# Altium integrated library Res-SMD_V2.IntLib: 2369 symbols (part 12 of 18)
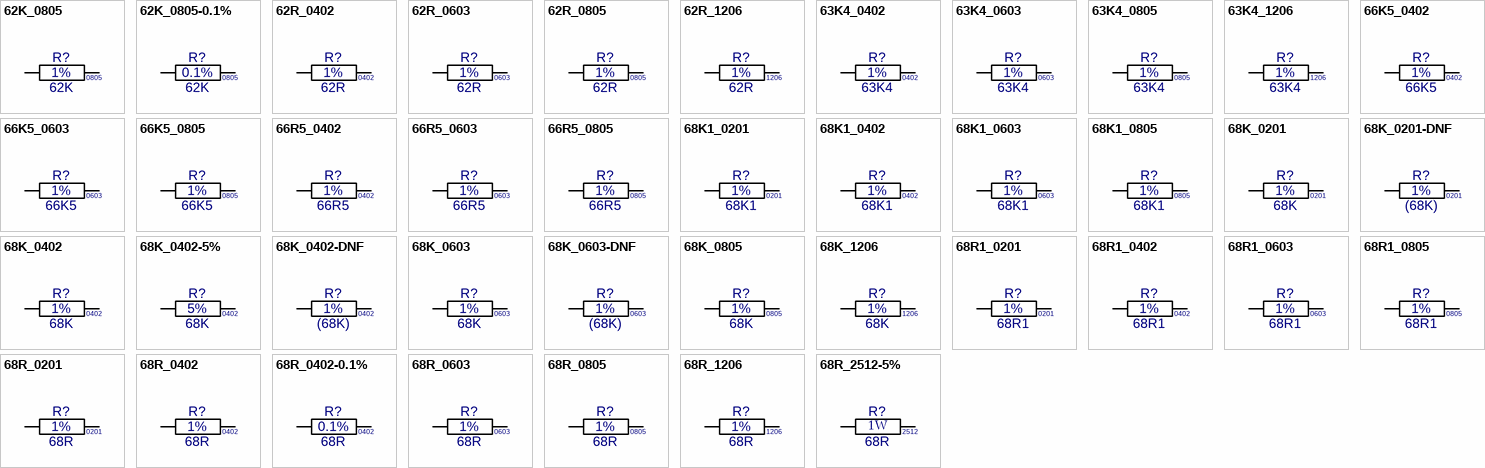
[diagram p70: symbols 62K_0805 to 68R_2512-5%]

## 68R_0805
designator R?, comment value 68R  Tol: 1%  Text1: 0805  (hidden comment: 68R_R0805_1%)
Resistor Chip SMD; Manufacturer: Various; Part Number: 68R 0805 1%; Watt: 125mW; Package: RESC0805X65N; EDM-PN: *; Text2: *; Reutech PN: *; SAAB PN: *; DCE Part No: *
footprint RESC0805X65N (Chip Resistor, 0805, 2-Leads, Body 2.0x1.3mm, IPC Medium Density)
pins: 1, 2

## 68R_1206
designator R?, comment value 68R  Tol: 1%  Text1: 1206  (hidden comment: 68R_R1206_1%)
Resistor Chip SMD; Manufacturer: Various; Part Number: 68R 1206 1%; Watt: 250mW; Package: RESC1206X71N; EDM-PN: *; Text2: *; Reutech PN: *; SAAB PN: *; DCE Part No: *
footprint RESC1206X71N (Chip Resistor, 1206, 2-Leads, Body 3.2x1.6mm, IPC Medium Density)
pins: 1, 2

## 68R_2512-5%
designator R?, comment value 68R  Watt: 1W  Text1: 2512  (hidden comment: 68R_R2512_5%)
Resistor Chip SMD; Manufacturer: Various; Part Number: 68R 2512 5%; Tol: 5%; Package: RESC2512X71N; EDM-PN: *; Text2: *; Reutech PN: *; SAAB PN: *; DCE Part No: *
footprint RESC2512X71N (Chip Resistor, 2512, 2-Leads, Body 6.3x3.2mm, IPC Medium Density)
pins: 1, 2

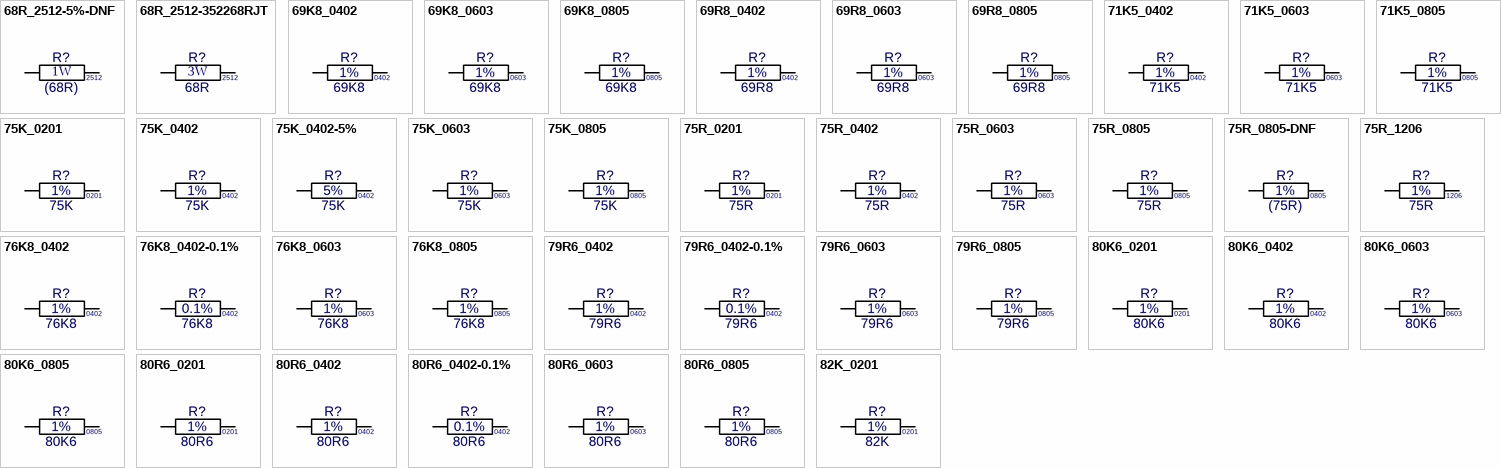
[diagram p37: symbols 68R_2512-5%-DNF to 82K_0201]

## 68R_2512-5%-DNF
designator R?, comment value (68R)  Watt: 1W  Text1: 2512  (hidden comment: 68R_R2512_5%-DNF)
Resistor Chip SMD - Do not Fit; Manufacturer: Various; Part Number: DNF - 68R 2512 5%; Tol: 5%; Package: RESC2512X71N; EDM-PN: *; Text2: *; Reutech PN: *; SAAB PN: *; DCE Part No: *
footprint RESC2512X71N (Chip Resistor, 2512, 2-Leads, Body 6.3x3.2mm, IPC Medium Density)
pins: 1, 2

## 68R_2512-352268RJT
designator R?, comment value 68R  Watt: 3W  Text1: 2512  (hidden comment: 352268RJT)
Resistor Chip Thick Film; Manufacturer: TE Connectivity; Tol: 5%; Part Number: 352268RJT; Package: RESC2512X71N; EDM-PN: *; Text2: *; Reutech PN: *; SAAB PN: *; DCE Part No: *
footprint RESC2512X71N (Chip Resistor, 2512, 2-Leads, Body 6.3x3.2mm, IPC Medium Density)
pins: 1, 2

## 69K8_0402
designator R?, comment value 69K8  Tol: 1%  Text1: 0402  (hidden comment: 69K8_R0402_1%)
Resistor Chip SMD; Manufacturer: Various; Part Number: 69K8 0402 1%; Watt: 63mW; Package: RESC0402X40N; EDM-PN: *; Text2: *; Reutech PN: *; SAAB PN: *; DCE Part No: *
footprint RESC0402X40N (Chip Resistor, 0402, 2-Leads, Body 1.1x0.5mm, IPC Medium Density)
pins: 1, 2

## 69K8_0603
designator R?, comment value 69K8  Tol: 1%  Text1: 0603  (hidden comment: 69K8_R0603_1%)
Resistor Chip SMD; Manufacturer: Various; Part Number: 69K8 0603 1%; Watt: 100mW; Package: RESC0603X60N; EDM-PN: *; Text2: *; Reutech PN: *; SAAB PN: *; DCE Part No: *
footprint RESC0603X60N (Chip Resistor, 0603, 2-Leads, Body 1.6x0.8mm, IPC Medium Density)
pins: 1, 2

## 69K8_0805
designator R?, comment value 69K8  Tol: 1%  Text1: 0805  (hidden comment: 69K8_R0805_1%)
Resistor Chip SMD; Manufacturer: Various; Part Number: 69K8 0805 1%; Watt: 125mW; Package: RESC0805X65N; EDM-PN: *; Text2: *; Reutech PN: *; SAAB PN: *; DCE Part No: *
footprint RESC0805X65N (Chip Resistor, 0805, 2-Leads, Body 2.0x1.3mm, IPC Medium Density)
pins: 1, 2

## 69R8_0402
designator R?, comment value 69R8  Tol: 1%  Text1: 0402  (hidden comment: 69R8_R0402_1%)
Resistor Chip SMD; Manufacturer: Various; Part Number: 69R8 0402 1%; Watt: 63mW; Package: RESC0402X40N; EDM-PN: *; Text2: *; Reutech PN: *; SAAB PN: *; DCE Part No: *
footprint RESC0402X40N (Chip Resistor, 0402, 2-Leads, Body 1.1x0.5mm, IPC Medium Density)
pins: 1, 2

## 69R8_0603
designator R?, comment value 69R8  Tol: 1%  Text1: 0603  (hidden comment: 69R8_R0603_1%)
Resistor Chip SMD; Manufacturer: Various; Part Number: 69R8 0603 1%; Watt: 100mW; Package: RESC0603X60N; EDM-PN: *; Text2: *; Reutech PN: *; SAAB PN: *; DCE Part No: *
footprint RESC0603X60N (Chip Resistor, 0603, 2-Leads, Body 1.6x0.8mm, IPC Medium Density)
pins: 1, 2

## 69R8_0805
designator R?, comment value 69R8  Tol: 1%  Text1: 0805  (hidden comment: 69R8_R0805_1%)
Resistor Chip SMD; Manufacturer: Various; Part Number: 69R8 0805 1%; Watt: 125mW; Package: RESC0805X65N; EDM-PN: *; Text2: *; Reutech PN: *; SAAB PN: *; DCE Part No: *
footprint RESC0805X65N (Chip Resistor, 0805, 2-Leads, Body 2.0x1.3mm, IPC Medium Density)
pins: 1, 2

## 71K5_0402
designator R?, comment value 71K5  Tol: 1%  Text1: 0402  (hidden comment: 71K5_R0402_1%)
Resistor Chip SMD; Manufacturer: Various; Part Number: 71K5 0402 1%; Watt: 63mW; EDM-PN: RES1566; Package: RESC0402X40N; Text2: *; Reutech PN: *; SAAB PN: *; DCE Part No: *
footprint RESC0402X40N (Chip Resistor, 0402, 2-Leads, Body 1.1x0.5mm, IPC Medium Density)
pins: 1, 2

## 71K5_0603
designator R?, comment value 71K5  Tol: 1%  Text1: 0603  (hidden comment: 71K5_R0603_1%)
Resistor Chip SMD; Manufacturer: Various; Part Number: 71K5 0603 1%; Watt: 100mW; Package: RESC0603X60N; EDM-PN: *; Text2: *; Reutech PN: *; SAAB PN: *; DCE Part No: *
footprint RESC0603X60N (Chip Resistor, 0603, 2-Leads, Body 1.6x0.8mm, IPC Medium Density)
pins: 1, 2

## 71K5_0805
designator R?, comment value 71K5  Tol: 1%  Text1: 0805  (hidden comment: 71K5_R0805_1%)
Resistor Chip SMD; Manufacturer: Various; Part Number: 71K5 0805 1%; Watt: 125mW; Package: RESC0805X65N; EDM-PN: *; Text2: *; Reutech PN: *; SAAB PN: *; DCE Part No: *
footprint RESC0805X65N (Chip Resistor, 0805, 2-Leads, Body 2.0x1.3mm, IPC Medium Density)
pins: 1, 2

## 75K_0201
designator R?, comment value 75K  Tol: 1%  Text1: 0201  (hidden comment: 75K_R0201_1%)
Resistor Chip SMD; Manufacturer: Various; Part Number: 75K 0201 1%; Watt: 31mW; Package: RESC0201X33N; EDM-PN: *; Text2: *; Reutech PN: *; SAAB PN: *; DCE Part No: *
footprint RESC0201X33N (Chip Resistor, 0201, 2-Leads, Body 0.6x0.3mm, IPC Medium Density)
pins: 1, 2

## 75K_0402
designator R?, comment value 75K  Tol: 1%  Text1: 0402  (hidden comment: 75K_R0402_1%)
Resistor Chip SMD; Manufacturer: Various; Part Number: 75K 0402 1%; Watt: 63mW; Package: RESC0402X40N; EDM-PN: *; Text2: *; Reutech PN: *; SAAB PN: *; DCE Part No: *
footprint RESC0402X40N (Chip Resistor, 0402, 2-Leads, Body 1.1x0.5mm, IPC Medium Density)
pins: 1, 2

## 75K_0402-5%
designator R?, comment value 75K  Tol: 5%  Text1: 0402  (hidden comment: 75K_R0402_5%)
Resistor Chip SMD; Manufacturer: Various; Part Number: 75K 0402 5%; Watt: 63mW; Package: RESC0402X40N; EDM-PN: *; Text2: *; Reutech PN: *; SAAB PN: *; DCE Part No: *
footprint RESC0402X40N (Chip Resistor, 0402, 2-Leads, Body 1.1x0.5mm, IPC Medium Density)
pins: 1, 2

## 75K_0603
designator R?, comment value 75K  Tol: 1%  Text1: 0603  (hidden comment: 75K_R0603_1%)
Resistor Chip SMD; Manufacturer: Various; Part Number: 75K 0603 1%; Watt: 100mW; EDM-PN: RES673; Package: RESC0603X60N; Text2: *; Reutech PN: 5905-93-7502; SAAB PN: *; DCE Part No: *
footprint RESC0603X60N (Chip Resistor, 0603, 2-Leads, Body 1.6x0.8mm, IPC Medium Density)
pins: 1, 2

## 75K_0805
designator R?, comment value 75K  Tol: 1%  Text1: 0805  (hidden comment: 75K_R0805_1%)
Resistor Chip SMD; Manufacturer: Various; Part Number: 75K 0805 1%; Watt: 125mW; Package: RESC0805X65N; EDM-PN: *; Text2: *; Reutech PN: *; SAAB PN: *; DCE Part No: *
footprint RESC0805X65N (Chip Resistor, 0805, 2-Leads, Body 2.0x1.3mm, IPC Medium Density)
pins: 1, 2

## 75R_0201
designator R?, comment value 75R  Tol: 1%  Text1: 0201  (hidden comment: 75R_R0201_1%)
Resistor Chip SMD; Manufacturer: Various; Part Number: 75R 0201 1%; Watt: 31mW; Package: RESC0201X33N; EDM-PN: *; Text2: *; Reutech PN: *; SAAB PN: *; DCE Part No: *
footprint RESC0201X33N (Chip Resistor, 0201, 2-Leads, Body 0.6x0.3mm, IPC Medium Density)
pins: 1, 2

## 75R_0402
designator R?, comment value 75R  Tol: 1%  Text1: 0402  (hidden comment: 75R_R0402_1%)
Resistor Chip SMD; Manufacturer: Various; Part Number: 75R 0402 1%; Watt: 63mW; Package: RESC0402X40N; EDM-PN: *; Text2: *; Reutech PN: *; SAAB PN: *; DCE Part No: *
footprint RESC0402X40N (Chip Resistor, 0402, 2-Leads, Body 1.1x0.5mm, IPC Medium Density)
pins: 1, 2

## 75R_0603
designator R?, comment value 75R  Tol: 1%  Text1: 0603  (hidden comment: 75R_R0603_1%)
Resistor Chip SMD; Manufacturer: Various; Part Number: 75R 0603 1%; Watt: 100mW; EDM-PN: RES673; Package: RESC0603X60N; Text2: *; SAAB PN: *; DCE Part No: *
footprint RESC0603X60N (Chip Resistor, 0603, 2-Leads, Body 1.6x0.8mm, IPC Medium Density)
pins: 1, 2

## 75R_0805
designator R?, comment value 75R  Tol: 1%  Text1: 0805  (hidden comment: 75R_R0805_1%)
Resistor Chip SMD; Manufacturer: Various; Part Number: 75R 0805 1%; Watt: 125mW; Package: RESC0805X65N; EDM-PN: *; Text2: *; Reutech PN: *; SAAB PN: *; DCE Part No: *
footprint RESC0805X65N (Chip Resistor, 0805, 2-Leads, Body 2.0x1.3mm, IPC Medium Density)
pins: 1, 2

## 75R_0805-DNF
designator R?, comment value (75R)  Tol: 1%  Text1: 0805  (hidden comment: 75R_R0805_1%-DNF)
Resistor Chip SMD - Do not Fit; Manufacturer: Various; Part Number: DNF - 75R 0805 1%; Watt: 125mW; Package: RESC0805X65N; EDM-PN: *; Text2: *; Reutech PN: *; SAAB PN: *; DCE Part No: *
footprint RESC0805X65N (Chip Resistor, 0805, 2-Leads, Body 2.0x1.3mm, IPC Medium Density)
pins: 1, 2

## 75R_1206
designator R?, comment value 75R  Tol: 1%  Text1: 1206  (hidden comment: 75R_R1206_1%)
Resistor Chip SMD; Manufacturer: Various; Part Number: 75R 1206 1%; Watt: 250mW; Package: RESC1206X71N; EDM-PN: *; Text2: *; Reutech PN: *; SAAB PN: *; DCE Part No: *
footprint RESC1206X71N (Chip Resistor, 1206, 2-Leads, Body 3.2x1.6mm, IPC Medium Density)
pins: 1, 2

## 76K8_0402
designator R?, comment value 76K8  Tol: 1%  Text1: 0402  (hidden comment: 76K8_R0402_1%)
Resistor Chip SMD; Manufacturer: Various; Part Number: 76K8 0402 1%; Watt: 63mW; Package: RESC0402X40N; EDM-PN: *; Text2: *; Reutech PN: *; SAAB PN: *; DCE Part No: *
footprint RESC0402X40N (Chip Resistor, 0402, 2-Leads, Body 1.1x0.5mm, IPC Medium Density)
pins: 1, 2

## 76K8_0402-0.1%
designator R?, comment value 76K8  Tol: 0.1%  Text1: 0402  (hidden comment: 76K8_R0402_0.1%)
Resistor Chip SMD; Manufacturer: Various; Part Number: 76K8 0402 0.1%; Watt: 63mW; Package: RESC0402X40N; EDM-PN: *; Text2: *; Reutech PN: *; SAAB PN: *; DCE Part No: *
footprint RESC0402X40N (Chip Resistor, 0402, 2-Leads, Body 1.1x0.5mm, IPC Medium Density)
pins: 1, 2

## 76K8_0603
designator R?, comment value 76K8  Tol: 1%  Text1: 0603  (hidden comment: 76K8_R0603_1%)
Resistor Chip SMD; Manufacturer: Various; Part Number: 76K8 0603 1%; Watt: 100mW; Package: RESC0603X60N; EDM-PN: *; Text2: *; Reutech PN: *; SAAB PN: *; DCE Part No: *
footprint RESC0603X60N (Chip Resistor, 0603, 2-Leads, Body 1.6x0.8mm, IPC Medium Density)
pins: 1, 2

## 76K8_0805
designator R?, comment value 76K8  Tol: 1%  Text1: 0805  (hidden comment: 76K8_R0805_1%)
Resistor Chip SMD; Manufacturer: Various; Part Number: 76K8 0805 1%; Watt: 125mW; Package: RESC0805X65N; EDM-PN: *; Text2: *; Reutech PN: *; SAAB PN: *; DCE Part No: *
footprint RESC0805X65N (Chip Resistor, 0805, 2-Leads, Body 2.0x1.3mm, IPC Medium Density)
pins: 1, 2

## 79R6_0402
designator R?, comment value 79R6  Tol: 1%  Text1: 0402  (hidden comment: 79R6_R0402_1%)
Resistor Chip SMD; Manufacturer: Various; Part Number: 79R6 0402 1%; Watt: 63mW; Package: RESC0402X40N; EDM-PN: *; Text2: *; Reutech PN: *; SAAB PN: *; DCE Part No: *
footprint RESC0402X40N (Chip Resistor, 0402, 2-Leads, Body 1.1x0.5mm, IPC Medium Density)
pins: 1, 2

## 79R6_0402-0.1%
designator R?, comment value 79R6  Tol: 0.1%  Text1: 0402  (hidden comment: 79R6_R0402_0.1%)
Resistor Chip SMD; Manufacturer: Various; Part Number: 79R6 0402 0.1%; Watt: 63mW; Package: RESC0402X40N; EDM-PN: *; Text2: *; Reutech PN: *; SAAB PN: *; DCE Part No: *
footprint RESC0402X40N (Chip Resistor, 0402, 2-Leads, Body 1.1x0.5mm, IPC Medium Density)
pins: 1, 2

## 79R6_0603
designator R?, comment value 79R6  Tol: 1%  Text1: 0603  (hidden comment: 79R6_R0603_1%)
Resistor Chip SMD; Manufacturer: Various; Part Number: 79R6 0603 1%; Watt: 100mW; Package: RESC0603X60N; EDM-PN: *; Text2: *; Reutech PN: *; SAAB PN: *; DCE Part No: *
footprint RESC0603X60N (Chip Resistor, 0603, 2-Leads, Body 1.6x0.8mm, IPC Medium Density)
pins: 1, 2

## 79R6_0805
designator R?, comment value 79R6  Tol: 1%  Text1: 0805  (hidden comment: 79R6_R0805_1%)
Resistor Chip SMD; Manufacturer: Various; Part Number: 79R6 0805 1%; Watt: 125mW; Package: RESC0805X65N; EDM-PN: *; Text2: *; Reutech PN: *; SAAB PN: *; DCE Part No: *
footprint RESC0805X65N (Chip Resistor, 0805, 2-Leads, Body 2.0x1.3mm, IPC Medium Density)
pins: 1, 2

## 80K6_0201
designator R?, comment value 80K6  Tol: 1%  Text1: 0201  (hidden comment: 80K6_R0201_1%)
Resistor Chip SMD; Manufacturer: Various; Part Number: 80K6 0201 1%; Watt: 31mW; Package: RESC0201X33N; EDM-PN: *; Text2: *; Reutech PN: *; SAAB PN: *; DCE Part No: *
footprint RESC0201X33N (Chip Resistor, 0201, 2-Leads, Body 0.6x0.3mm, IPC Medium Density)
pins: 1, 2

## 80K6_0402
designator R?, comment value 80K6  Tol: 1%  Text1: 0402  (hidden comment: 80K6_R0402_1%)
Resistor Chip SMD; Manufacturer: Various; Part Number: 80K6 0402 1%; Watt: 63mW; Package: RESC0402X40N; EDM-PN: *; Text2: *; Reutech PN: *; SAAB PN: *; DCE Part No: *
footprint RESC0402X40N (Chip Resistor, 0402, 2-Leads, Body 1.1x0.5mm, IPC Medium Density)
pins: 1, 2

## 80K6_0603
designator R?, comment value 80K6  Tol: 1%  Text1: 0603  (hidden comment: 80K6_R0603_1%)
Resistor Chip SMD; Manufacturer: Various; Part Number: 80K6 0603 1%; Watt: 100mW; Package: RESC0603X60N; EDM-PN: *; Text2: *; Reutech PN: *; SAAB PN: *; DCE Part No: *
footprint RESC0603X60N (Chip Resistor, 0603, 2-Leads, Body 1.6x0.8mm, IPC Medium Density)
pins: 1, 2

## 80K6_0805
designator R?, comment value 80K6  Tol: 1%  Text1: 0805  (hidden comment: 80K6_R0805_1%)
Resistor Chip SMD; Manufacturer: Various; Part Number: 80K6 0805 1%; Watt: 125mW; Package: RESC0805X65N; EDM-PN: *; Text2: *; Reutech PN: *; SAAB PN: *; DCE Part No: *
footprint RESC0805X65N (Chip Resistor, 0805, 2-Leads, Body 2.0x1.3mm, IPC Medium Density)
pins: 1, 2

## 80R6_0201
designator R?, comment value 80R6  Tol: 1%  Text1: 0201  (hidden comment: 80R6_R0201_1%)
Resistor Chip SMD; Manufacturer: Various; Part Number: 80R6 0201 1%; Watt: 31mW; Package: RESC0201X33N; EDM-PN: *; Text2: *; Reutech PN: *; SAAB PN: *; DCE Part No: *
footprint RESC0201X33N (Chip Resistor, 0201, 2-Leads, Body 0.6x0.3mm, IPC Medium Density)
pins: 1, 2

## 80R6_0402
designator R?, comment value 80R6  Tol: 1%  Text1: 0402  (hidden comment: 80R6_R0402_1%)
Resistor Chip SMD; Manufacturer: Various; Part Number: 80R6 0402 1%; Watt: 63mW; Package: RESC0402X40N; EDM-PN: *; Text2: *; Reutech PN: *; SAAB PN: *; DCE Part No: *
footprint RESC0402X40N (Chip Resistor, 0402, 2-Leads, Body 1.1x0.5mm, IPC Medium Density)
pins: 1, 2

## 80R6_0402-0.1%
designator R?, comment value 80R6  Tol: 0.1%  Text1: 0402  (hidden comment: 80R6_R0402_0.1%)
Resistor Chip SMD; Manufacturer: Various; Part Number: 80R6 0402 0.1%; Watt: 63mW; Package: RESC0402X40N; EDM-PN: *; Text2: *; Reutech PN: *; SAAB PN: *; DCE Part No: *
footprint RESC0402X40N (Chip Resistor, 0402, 2-Leads, Body 1.1x0.5mm, IPC Medium Density)
pins: 1, 2

## 80R6_0603
designator R?, comment value 80R6  Tol: 1%  Text1: 0603  (hidden comment: 80R6_R0603_1%)
Resistor Chip SMD; Manufacturer: Various; Part Number: 80R6 0603 1%; Watt: 100mW; Package: RESC0603X60N; EDM-PN: *; Text2: *; Reutech PN: *; SAAB PN: *; DCE Part No: *
footprint RESC0603X60N (Chip Resistor, 0603, 2-Leads, Body 1.6x0.8mm, IPC Medium Density)
pins: 1, 2

## 80R6_0805
designator R?, comment value 80R6  Tol: 1%  Text1: 0805  (hidden comment: 80R6_R0805_1%)
Resistor Chip SMD; Manufacturer: Various; Part Number: 80R6 0805 1%; Watt: 125mW; Package: RESC0805X65N; EDM-PN: *; Text2: *; Reutech PN: *; SAAB PN: *; DCE Part No: *
footprint RESC0805X65N (Chip Resistor, 0805, 2-Leads, Body 2.0x1.3mm, IPC Medium Density)
pins: 1, 2

## 82K_0201
designator R?, comment value 82K  Tol: 1%  Text1: 0201  (hidden comment: 82K_R0201_1%)
Resistor Chip SMD; Manufacturer: Various; Part Number: 82K 0201 1%; Watt: 31mW; Package: RESC0201X33N; EDM-PN: *; Text2: *; Reutech PN: *; SAAB PN: *; DCE Part No: *
footprint RESC0201X33N (Chip Resistor, 0201, 2-Leads, Body 0.6x0.3mm, IPC Medium Density)
pins: 1, 2

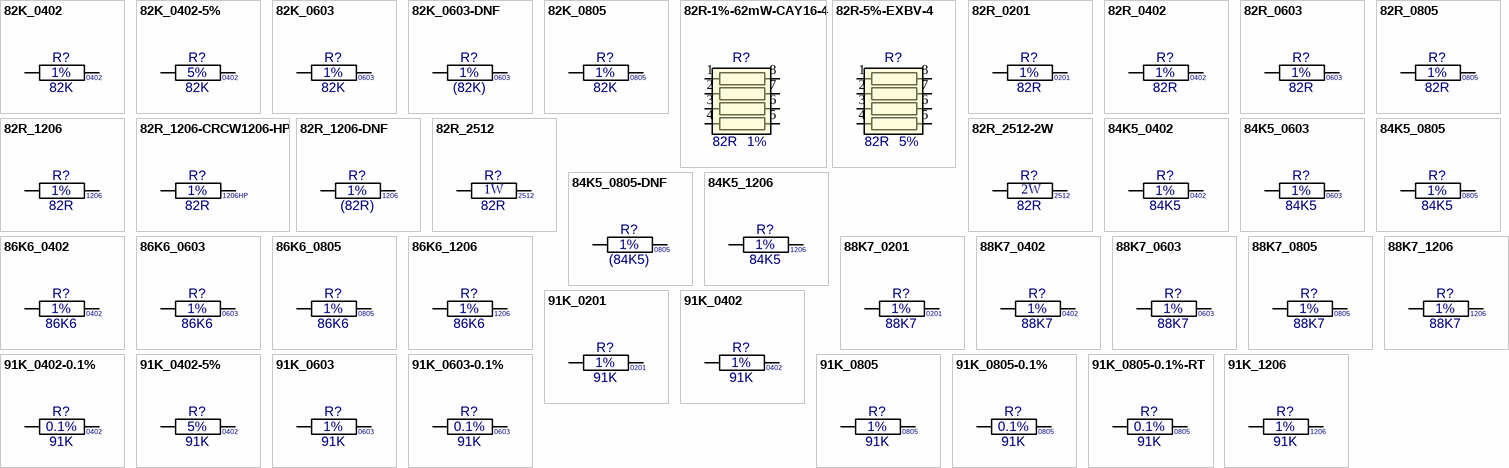
[diagram p38: symbols 82K_0402 to 91K_1206]

## 82K_0402
designator R?, comment value 82K  Tol: 1%  Text1: 0402  (hidden comment: 82K_R0402_1%)
Resistor Chip SMD; Manufacturer: Various; Part Number: 82K 0402 1%; Watt: 63mW; EDM-PN: RES1377; SAAB PN: 1ACF01165AEA; Package: RESC0402X40N; Text2: *; Reutech PN: *; DCE Part No: *
footprint RESC0402X40N (Chip Resistor, 0402, 2-Leads, Body 1.1x0.5mm, IPC Medium Density)
pins: 1, 2

## 82K_0402-5%
designator R?, comment value 82K  Tol: 5%  Text1: 0402  (hidden comment: 82K_R0402_5%)
Resistor Chip SMD; Manufacturer: Various; Part Number: 82K 0402 5%; Watt: 63mW; Package: RESC0402X40N; EDM-PN: *; Text2: *; Reutech PN: *; SAAB PN: *; DCE Part No: *
footprint RESC0402X40N (Chip Resistor, 0402, 2-Leads, Body 1.1x0.5mm, IPC Medium Density)
pins: 1, 2

## 82K_0603
designator R?, comment value 82K  Tol: 1%  Text1: 0603  (hidden comment: 82K_R0603_1%)
Resistor Chip SMD; Manufacturer: Various; Part Number: 82K 0603 1%; Watt: 100mW; EDM-PN: RES184; Package: RESC0603X60N; Text2: *; Reutech PN: 5905-93-8202; SAAB PN: *; DCE Part No: *
footprint RESC0603X60N (Chip Resistor, 0603, 2-Leads, Body 1.6x0.8mm, IPC Medium Density)
pins: 1, 2

## 82K_0603-DNF
designator R?, comment value (82K)  Tol: 1%  Text1: 0603  (hidden comment: 82K_R0603_1%)
Resistor Chip SMD - Do not Fit; Manufacturer: Various; Part Number: DNF - 82K 0603 1%; Watt: 100mW; Package: RESC0603X60N; EDM-PN: *; Text2: *; Reutech PN: *; SAAB PN: *; DCE Part No: *
footprint RESC0603X60N (Chip Resistor, 0603, 2-Leads, Body 1.6x0.8mm, IPC Medium Density)
pins: 1, 2

## 82K_0805
designator R?, comment value 82K  Tol: 1%  Text1: 0805  (hidden comment: 82K_R0805_1%)
Resistor Chip SMD; Manufacturer: Various; Part Number: 82K 0805 1%; Watt: 125mW; EDM-PN: RES98; SAAB PN: 1ACF00211AEA; Package: RESC0805X65N; Text2: *; Reutech PN: *; DCE Part No: *
footprint RESC0805X65N (Chip Resistor, 0805, 2-Leads, Body 2.0x1.3mm, IPC Medium Density)
pins: 1, 2

## 82R-1%-62mW-CAY16-4
designator R?  value 82R  Tol: 1%  (hidden comment: 82R-1%-62mW-CAY16-4)
Resistor Chip Array; Manufacturer: Bourns; Part Number: CAY16-82R0F4; Watt: 62mW; Package: CAY16-4; EDM-PN: *; Text2: *; Text1: *; Reutech PN: *; SAAB PN: *; DCE Part No: *
footprint CAY16-4 (Res Network 1.6x3.2mm)
pins: 1, 2, 3, 4, 5, 6, 7, 8

## 82R-5%-EXBV-4
designator R?  value 82R  Tol: 5%  (hidden comment: 82R-5%-EXBV-4)
Resistor Chip Array; Manufacturer: Panasonic; Part Number: EXBV8V820J; Package: EXBV8V; EDM-PN: *; Text2: *; Text1: *; Watt: *; Reutech PN: *; SAAB PN: *; DCE Part No: *
footprint EXBV8V (Res Network 1.6x3.2mm)
pins: 1, 2, 3, 4, 5, 6, 7, 8

## 82R_0201
designator R?, comment value 82R  Tol: 1%  Text1: 0201  (hidden comment: 82R_R0201_1%)
Resistor Chip SMD; Manufacturer: Various; Part Number: 82R 0201 1%; Watt: 31mW; Package: RESC0201X33N; EDM-PN: *; Text2: *; Reutech PN: *; SAAB PN: *; DCE Part No: *
footprint RESC0201X33N (Chip Resistor, 0201, 2-Leads, Body 0.6x0.3mm, IPC Medium Density)
pins: 1, 2

## 82R_0402
designator R?, comment value 82R  Tol: 1%  Text1: 0402  (hidden comment: 82R_R0402_1%)
Resistor Chip SMD; Manufacturer: Various; Part Number: 82R 0402 1%; Watt: 63mW; Package: RESC0402X40N; EDM-PN: *; Text2: *; Reutech PN: *; SAAB PN: *; DCE Part No: *
footprint RESC0402X40N (Chip Resistor, 0402, 2-Leads, Body 1.1x0.5mm, IPC Medium Density)
pins: 1, 2

## 82R_0603
designator R?, comment value 82R  Tol: 1%  Text1: 0603  (hidden comment: 82R_R0603_1%)
Resistor Chip SMD; Manufacturer: Various; Part Number: 82R 0603 1%; Watt: 100mW; Package: RESC0603X60N; EDM-PN: *; Text2: *; Reutech PN: *; SAAB PN: *; DCE Part No: *
footprint RESC0603X60N (Chip Resistor, 0603, 2-Leads, Body 1.6x0.8mm, IPC Medium Density)
pins: 1, 2

## 82R_0805
designator R?, comment value 82R  Tol: 1%  Text1: 0805  (hidden comment: 82R_R0805_1%)
Resistor Chip SMD; Manufacturer: Various; Part Number: 82R 0805 1%; Watt: 125mW; Package: RESC0805X65N; EDM-PN: *; Text2: *; Reutech PN: *; SAAB PN: *; DCE Part No: *
footprint RESC0805X65N (Chip Resistor, 0805, 2-Leads, Body 2.0x1.3mm, IPC Medium Density)
pins: 1, 2

## 82R_1206
designator R?, comment value 82R  Tol: 1%  Text1: 1206  (hidden comment: 82R_R1206_1%)
Resistor Chip SMD; Manufacturer: Various; Part Number: 82R 1206 1%; Watt: 250mW; Package: RESC1206X71N; EDM-PN: *; Text2: *; Reutech PN: *; SAAB PN: *; DCE Part No: *
footprint RESC1206X71N (Chip Resistor, 1206, 2-Leads, Body 3.2x1.6mm, IPC Medium Density)
pins: 1, 2

## 82R_1206-CRCW1206-HP
designator R?, comment value 82R  Tol: 1%  Text1: 1206HP  (hidden comment: 82R_R1206_1%-CRCW1206-HP)
Resistor Chip Pulse Proof High Power Thick Film; Manufacturer: Vishay; Part Number: CRCW120682R0FKEAHP; Watt: 500mW; Package: CRCW1206-HP; EDM-PN: *; Text2: *; Reutech PN: *; SAAB PN: *; DCE Part No: *
footprint CRCW1206-HP (CCRCW1206-HP 3.2x1.6mm, IPC Medium Density)
pins: 1, 2

## 82R_1206-DNF
designator R?, comment value (82R)  Tol: 1%  Text1: 1206  (hidden comment: 82R_R1206_1%)
Resistor Chip SMD - Do not Fit; Manufacturer: Various; Part Number: DNF - 82R 1206 1%; Watt: 250mW; Package: RESC1206X71N; EDM-PN: *; Text2: *; Reutech PN: *; SAAB PN: *; DCE Part No: *
footprint RESC1206X71N (Chip Resistor, 1206, 2-Leads, Body 3.2x1.6mm, IPC Medium Density)
pins: 1, 2

## 82R_2512
designator R?, comment value 82R  Watt: 1W  Text1: 2512  (hidden comment: 82R_R2512)
Resistor Chip SMD; Manufacturer: Various; Part Number: 82R 2512 1%; Tol: 1%; Package: RESC2512X71N; EDM-PN: *; Text2: *; Reutech PN: *; SAAB PN: *; DCE Part No: *
footprint RESC2512X71N (Chip Resistor, 2512, 2-Leads, Body 6.3x3.2mm, IPC Medium Density)
pins: 1, 2

## 82R_2512-2W
designator R?, comment value 82R  Watt: 2W  Text1: 2512  (hidden comment: 82R_R2512)
Resistor Thick Film; Manufacturer: TE Connectivity; Part Number: 2-2176070-3; Tol: 1%; Package: RESC2512X71N; EDM-PN: *; Text2: *; Reutech PN: *; SAAB PN: *; DCE Part No: *
footprint RESC2512X71N (Chip Resistor, 2512, 2-Leads, Body 6.3x3.2mm, IPC Medium Density)
pins: 1, 2

## 84K5_0402
designator R?, comment value 84K5  Tol: 1%  Text1: 0402  (hidden comment: 84K5_R0402_1%)
Resistor Chip SMD; Manufacturer: Various; Part Number: 84K5 0402 1%; Watt: 63mW; Package: RESC0402X40N; EDM-PN: *; Text2: *; Reutech PN: *; SAAB PN: *; DCE Part No: *
footprint RESC0402X40N (Chip Resistor, 0402, 2-Leads, Body 1.1x0.5mm, IPC Medium Density)
pins: 1, 2

## 84K5_0603
designator R?, comment value 84K5  Tol: 1%  Text1: 0603  (hidden comment: 84K5_R0603_1%)
Resistor Chip SMD; Manufacturer: Various; Part Number: 84K5 0603 1%; Watt: 100mW; Package: RESC0603X60N; EDM-PN: *; Text2: *; Reutech PN: *; SAAB PN: *; DCE Part No: *
footprint RESC0603X60N (Chip Resistor, 0603, 2-Leads, Body 1.6x0.8mm, IPC Medium Density)
pins: 1, 2

## 84K5_0805
designator R?, comment value 84K5  Tol: 1%  Text1: 0805  (hidden comment: 84K5_R0805_1%)
Resistor Chip SMD; Manufacturer: Various; Part Number: 84K5 0805 1%; Watt: 125mW; Package: RESC0805X65N; EDM-PN: *; Text2: *; Reutech PN: *; SAAB PN: *; DCE Part No: *
footprint RESC0805X65N (Chip Resistor, 0805, 2-Leads, Body 2.0x1.3mm, IPC Medium Density)
pins: 1, 2

## 84K5_0805-DNF
designator R?, comment value (84K5)  Tol: 1%  Text1: 0805  (hidden comment: 84K5_R0805_1%-DNF)
Resistor Chip SMD - Do not Fit; Manufacturer: Various; Part Number: DNF - 84K5 0805 1%; Watt: 125mW; Package: RESC0805X65N; EDM-PN: *; Text2: *; Reutech PN: *; SAAB PN: *; DCE Part No: *
footprint RESC0805X65N (Chip Resistor, 0805, 2-Leads, Body 2.0x1.3mm, IPC Medium Density)
pins: 1, 2

## 84K5_1206
designator R?, comment value 84K5  Tol: 1%  Text1: 1206  (hidden comment: 84K5_R1206_1%)
Resistor Chip SMD; Manufacturer: Various; Part Number: 84K5 1206 1%; Watt: 250mW; Package: RESC1206X71N; EDM-PN: *; Text2: *; Reutech PN: *; SAAB PN: *; DCE Part No: *
footprint RESC1206X71N (Chip Resistor, 1206, 2-Leads, Body 3.2x1.6mm, IPC Medium Density)
pins: 1, 2

## 86K6_0402
designator R?, comment value 86K6  Tol: 1%  Text1: 0402  (hidden comment: 86K6_R0402_1%)
Resistor Chip SMD; Manufacturer: Various; Part Number: 86K6 0402 1%; Watt: 63mW; EDM-PN: RES1489; Package: RESC0402X40N; Text2: *; Reutech PN: *; SAAB PN: *; DCE Part No: *
footprint RESC0402X40N (Chip Resistor, 0402, 2-Leads, Body 1.1x0.5mm, IPC Medium Density)
pins: 1, 2

## 86K6_0603
designator R?, comment value 86K6  Tol: 1%  Text1: 0603  (hidden comment: 86K6_R0603_1%)
Resistor Chip SMD; Manufacturer: Various; Part Number: 86K6 0603 1%; Watt: 100mW; EDM-PN: RES1487; Package: RESC0603X60N; Text2: *; Reutech PN: *; SAAB PN: *; DCE Part No: *
footprint RESC0603X60N (Chip Resistor, 0603, 2-Leads, Body 1.6x0.8mm, IPC Medium Density)
pins: 1, 2

## 86K6_0805
designator R?, comment value 86K6  Tol: 1%  Text1: 0805  (hidden comment: 86K6_R0805_1%)
Resistor Chip SMD; Manufacturer: Various; Part Number: 86K6 0805 1%; Watt: 125mW; Package: RESC0805X65N; EDM-PN: *; Text2: *; Reutech PN: *; SAAB PN: *; DCE Part No: *
footprint RESC0805X65N (Chip Resistor, 0805, 2-Leads, Body 2.0x1.3mm, IPC Medium Density)
pins: 1, 2

## 86K6_1206
designator R?, comment value 86K6  Tol: 1%  Text1: 1206  (hidden comment: 86K6_R1206_1%)
Resistor Chip SMD; Manufacturer: Various; Part Number: 86K6 1206 1%; Watt: 250mW; Package: RESC1206X71N; EDM-PN: *; Text2: *; Reutech PN: *; SAAB PN: *; DCE Part No: *
footprint RESC1206X71N (Chip Resistor, 1206, 2-Leads, Body 3.2x1.6mm, IPC Medium Density)
pins: 1, 2

## 88K7_0201
designator R?, comment value 88K7  Tol: 1%  Text1: 0201  (hidden comment: 88K7_R0201_1%)
Resistor Chip SMD; Manufacturer: Various; Part Number: 88K7 0201 1%; Watt: 31mW; Package: RESC0201X33N; EDM-PN: *; Text2: *; Reutech PN: *; SAAB PN: *; DCE Part No: *
footprint RESC0201X33N (Chip Resistor, 0201, 2-Leads, Body 0.6x0.3mm, IPC Medium Density)
pins: 1, 2

## 88K7_0402
designator R?, comment value 88K7  Tol: 1%  Text1: 0402  (hidden comment: 88K7_R0402_1%)
Resistor Chip SMD; Manufacturer: Various; Part Number: 88K7 0402 1%; Watt: 63mW; Package: RESC0402X40N; EDM-PN: *; Text2: *; Reutech PN: *; SAAB PN: *; DCE Part No: *
footprint RESC0402X40N (Chip Resistor, 0402, 2-Leads, Body 1.1x0.5mm, IPC Medium Density)
pins: 1, 2

## 88K7_0603
designator R?, comment value 88K7  Tol: 1%  Text1: 0603  (hidden comment: 88K7_R0603_1%)
Resistor Chip SMD; Manufacturer: Various; Part Number: 88K7 0603 1%; Watt: 100mW; Package: RESC0603X60N; EDM-PN: *; Text2: *; Reutech PN: *; SAAB PN: *; DCE Part No: *
footprint RESC0603X60N (Chip Resistor, 0603, 2-Leads, Body 1.6x0.8mm, IPC Medium Density)
pins: 1, 2

## 88K7_0805
designator R?, comment value 88K7  Tol: 1%  Text1: 0805  (hidden comment: 88K7_R0805_1%)
Resistor Chip SMD; Manufacturer: Various; Part Number: 88K7 0805 1%; Watt: 125mW; Package: RESC0805X65N; EDM-PN: *; Text2: *; Reutech PN: *; SAAB PN: *; DCE Part No: *
footprint RESC0805X65N (Chip Resistor, 0805, 2-Leads, Body 2.0x1.3mm, IPC Medium Density)
pins: 1, 2

## 88K7_1206
designator R?, comment value 88K7  Tol: 1%  Text1: 1206  (hidden comment: 88K7_R1206_1%)
Resistor Chip SMD; Manufacturer: Various; Part Number: 88K7 1206 1%; Watt: 250mW; Package: RESC1206X71N; EDM-PN: *; Text2: *; Reutech PN: *; SAAB PN: *; DCE Part No: *
footprint RESC1206X71N (Chip Resistor, 1206, 2-Leads, Body 3.2x1.6mm, IPC Medium Density)
pins: 1, 2

## 91K_0201
designator R?, comment value 91K  Tol: 1%  Text1: 0201  (hidden comment: 91K_R0201_1%)
Resistor Chip SMD; Manufacturer: Various; Part Number: 91K 0201 1%; Watt: 31mW; Package: RESC0201X33N; EDM-PN: *; Text2: *; Reutech PN: *; SAAB PN: *; DCE Part No: *
footprint RESC0201X33N (Chip Resistor, 0201, 2-Leads, Body 0.6x0.3mm, IPC Medium Density)
pins: 1, 2

## 91K_0402
designator R?, comment value 91K  Tol: 1%  Text1: 0402  (hidden comment: 91K_R0402_1%)
Resistor Chip SMD; Manufacturer: Various; Part Number: 91K 0402 1%; Watt: 63mW; Package: RESC0402X40N; EDM-PN: *; Text2: *; Reutech PN: *; SAAB PN: *; DCE Part No: *
footprint RESC0402X40N (Chip Resistor, 0402, 2-Leads, Body 1.1x0.5mm, IPC Medium Density)
pins: 1, 2

## 91K_0402-0.1%
designator R?, comment value 91K  Tol: 0.1%  Text1: 0402  (hidden comment: 91K_R0402_0.1%)
Resistor Chip SMD; Manufacturer: Various; Part Number: 91K 0402 0.1%; Watt: 63mW; Package: RESC0402X40N; EDM-PN: *; Text2: *; Reutech PN: *; SAAB PN: *; DCE Part No: *
footprint RESC0402X40N (Chip Resistor, 0402, 2-Leads, Body 1.1x0.5mm, IPC Medium Density)
pins: 1, 2

## 91K_0402-5%
designator R?, comment value 91K  Tol: 5%  Text1: 0402  (hidden comment: 91K_R0402_5%)
Resistor Chip SMD; Manufacturer: Various; Part Number: 91K 0402 5%; Watt: 63mW; Package: RESC0402X40N; EDM-PN: *; Text2: *; Reutech PN: *; SAAB PN: *; DCE Part No: *
footprint RESC0402X40N (Chip Resistor, 0402, 2-Leads, Body 1.1x0.5mm, IPC Medium Density)
pins: 1, 2

## 91K_0603
designator R?, comment value 91K  Tol: 1%  Text1: 0603  (hidden comment: 91K_R0603_1%)
Resistor Chip SMD; Manufacturer: Various; Part Number: 91K 0603 1%; Watt: 100mW; EDM-PN: RES1372; Package: RESC0603X60N; Text2: *; Reutech PN: *; SAAB PN: *; DCE Part No: *
footprint RESC0603X60N (Chip Resistor, 0603, 2-Leads, Body 1.6x0.8mm, IPC Medium Density)
pins: 1, 2

## 91K_0603-0.1%
designator R?, comment value 91K  Tol: 0.1%  Text1: 0603  (hidden comment: 91K_R0603_0.1%)
Resistor Chip SMD; Manufacturer: Various; Part Number: 91K 0603 0.1%; Watt: 100mW; Package: RESC0603X60N; EDM-PN: *; Text2: *; Reutech PN: *; SAAB PN: *; DCE Part No: *
footprint RESC0603X60N (Chip Resistor, 0603, 2-Leads, Body 1.6x0.8mm, IPC Medium Density)
pins: 1, 2

## 91K_0805
designator R?, comment value 91K  Tol: 1%  Text1: 0805  (hidden comment: 91K_R0805_1%)
Resistor Chip SMD; Manufacturer: Various; Part Number: 91K 0805 1%; Watt: 125mW; Package: RESC0805X65N; EDM-PN: *; Text2: *; Reutech PN: *; SAAB PN: *; DCE Part No: *
footprint RESC0805X65N (Chip Resistor, 0805, 2-Leads, Body 2.0x1.3mm, IPC Medium Density)
pins: 1, 2

## 91K_0805-0.1%
designator R?, comment value 91K  Tol: 0.1%  Text1: 0805  (hidden comment: 91K_R0805_0.1%)
Resistor Chip SMD; Manufacturer: Various; Part Number: 91K 0805 0.1%; Watt: 125mW; Package: RESC0805X65N; EDM-PN: *; Text2: *; Reutech PN: *; SAAB PN: *; DCE Part No: *
footprint RESC0805X65N (Chip Resistor, 0805, 2-Leads, Body 2.0x1.3mm, IPC Medium Density)
pins: 1, 2

## 91K_0805-0.1%-RT
designator R?, comment value 91K  Tol: 0.1%  Text1: 0805  (hidden comment: 91K_R0805_0.1%-RT)
Resistor Chip SMD; Manufacturer: Yageo; Part Number: RT0805BRD0791KL; Watt: 125mW; Package: RESC0805X65N; EDM-PN: *; Text2: *; Reutech PN: *; SAAB PN: *; DCE Part No: *
footprint RESC0805X65N (Chip Resistor, 0805, 2-Leads, Body 2.0x1.3mm, IPC Medium Density)
pins: 1, 2

## 91K_1206
designator R?, comment value 91K  Tol: 1%  Text1: 1206  (hidden comment: 91K_R1206_1%)
Resistor Chip SMD; Manufacturer: Various; Part Number: 91K 1206 1%; Watt: 250mW; Package: RESC1206X71N; EDM-PN: *; Text2: *; Reutech PN: *; SAAB PN: *; DCE Part No: *
footprint RESC1206X71N (Chip Resistor, 1206, 2-Leads, Body 3.2x1.6mm, IPC Medium Density)
pins: 1, 2

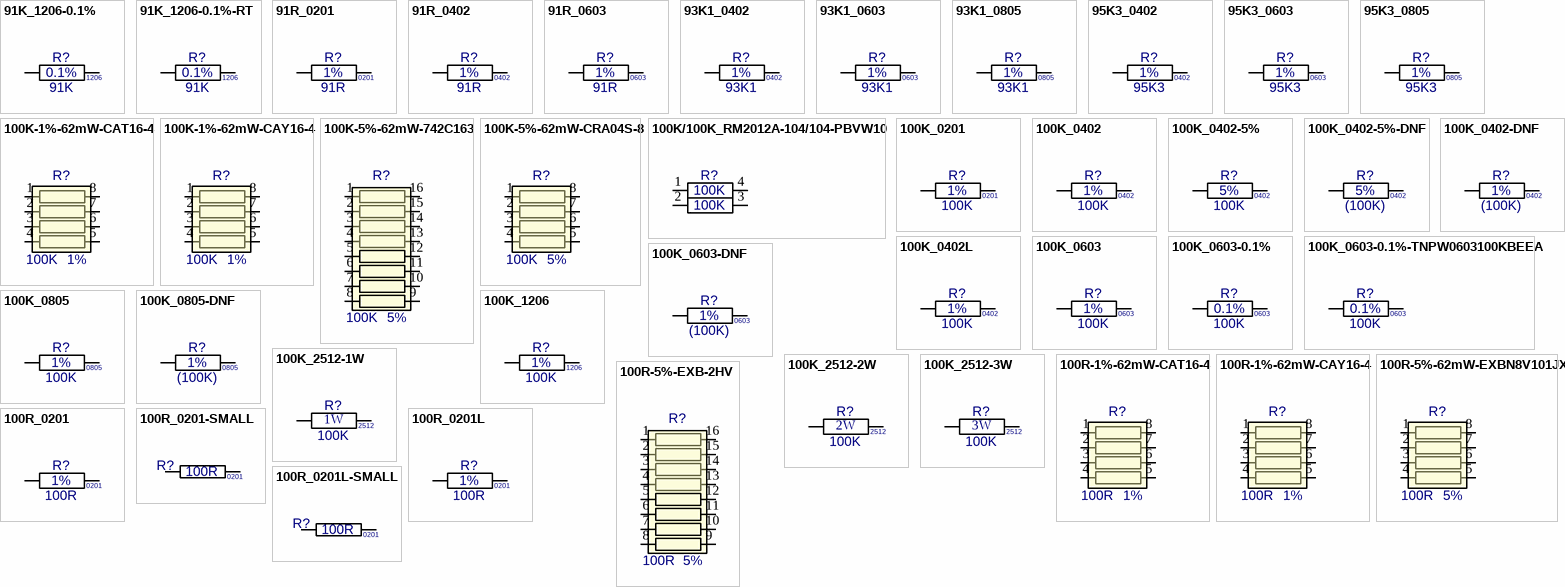
[diagram p39: symbols 91K_1206-0.1% to 100R_0201L-SMALL]

## 91K_1206-0.1%
designator R?, comment value 91K  Tol: 0.1%  Text1: 1206  (hidden comment: 91K_R1206_0.1%)
Resistor Chip SMD; Manufacturer: Various; Part Number: 91K 1206 0.1%; Watt: 250mW; Package: RESC1206X71N; EDM-PN: *; Text2: *; Reutech PN: *; SAAB PN: *; DCE Part No: *
footprint RESC1206X71N (Chip Resistor, 1206, 2-Leads, Body 3.2x1.6mm, IPC Medium Density)
pins: 1, 2

## 91K_1206-0.1%-RT
designator R?, comment value 91K  Tol: 0.1%  Text1: 1206  (hidden comment: 91K_R1206_0.1%-RT)
Resistor Chip SMD; Manufacturer: Yageo; Part Number: RT1206BRD0791KL; Watt: 250mW; Package: RESC1206X71N; EDM-PN: *; Text2: *; Reutech PN: *; SAAB PN: *; DCE Part No: *
footprint RESC1206X71N (Chip Resistor, 1206, 2-Leads, Body 3.2x1.6mm, IPC Medium Density)
pins: 1, 2

## 91R_0201
designator R?, comment value 91R  Tol: 1%  Text1: 0201  (hidden comment: 91R_R0201_1%)
Resistor Chip SMD; Manufacturer: Various; Part Number: 91R 0201 1%; Watt: 31mW; Package: RESC0201X33N; EDM-PN: *; Text2: *; Reutech PN: *; SAAB PN: *; DCE Part No: *
footprint RESC0201X33N (Chip Resistor, 0201, 2-Leads, Body 0.6x0.3mm, IPC Medium Density)
pins: 1, 2

## 91R_0402
designator R?, comment value 91R  Tol: 1%  Text1: 0402  (hidden comment: 91R_R0402_1%)
Resistor Chip SMD; Manufacturer: Various; Part Number: 91R 0402 1%; Watt: 63mW; Package: RESC0402X40N; EDM-PN: *; Text2: *; Reutech PN: *; SAAB PN: *; DCE Part No: *
footprint RESC0402X40N (Chip Resistor, 0402, 2-Leads, Body 1.1x0.5mm, IPC Medium Density)
pins: 1, 2

## 91R_0603
designator R?, comment value 91R  Tol: 1%  Text1: 0603  (hidden comment: 91R_R0603_1%)
Resistor Chip SMD; Manufacturer: Various; Part Number: 91R 0603 1%; Watt: 100mW; Package: RESC0603X60N; EDM-PN: *; Text2: *; Reutech PN: *; SAAB PN: *; DCE Part No: *
footprint RESC0603X60N (Chip Resistor, 0603, 2-Leads, Body 1.6x0.8mm, IPC Medium Density)
pins: 1, 2

## 93K1_0402
designator R?, comment value 93K1  Tol: 1%  Text1: 0402  (hidden comment: 93K1_R0402_1%)
Resistor Chip SMD; Manufacturer: Various; Part Number: 93K1 0402 1%; Watt: 63mW; Package: RESC0402X40N; EDM-PN: *; Text2: *; Reutech PN: *; SAAB PN: *; DCE Part No: *
footprint RESC0402X40N (Chip Resistor, 0402, 2-Leads, Body 1.1x0.5mm, IPC Medium Density)
pins: 1, 2

## 93K1_0603
designator R?, comment value 93K1  Tol: 1%  Text1: 0603  (hidden comment: 93K1_R0603_1%)
Resistor Chip SMD; Manufacturer: Various; Part Number: 93K1 0603 1%; Watt: 100mW; Package: RESC0603X60N; EDM-PN: *; Text2: *; Reutech PN: *; SAAB PN: *; DCE Part No: *
footprint RESC0603X60N (Chip Resistor, 0603, 2-Leads, Body 1.6x0.8mm, IPC Medium Density)
pins: 1, 2

## 93K1_0805
designator R?, comment value 93K1  Tol: 1%  Text1: 0805  (hidden comment: 93K1_R0805_1%)
Resistor Chip SMD; Manufacturer: Various; Part Number: 93K1 0805 1%; Watt: 125mW; Package: RESC0805X65N; EDM-PN: *; Text2: *; Reutech PN: *; SAAB PN: *; DCE Part No: *
footprint RESC0805X65N (Chip Resistor, 0805, 2-Leads, Body 2.0x1.3mm, IPC Medium Density)
pins: 1, 2

## 95K3_0402
designator R?, comment value 95K3  Tol: 1%  Text1: 0402  (hidden comment: 95K3_R0402_1%)
Resistor Chip SMD; Manufacturer: Various; Part Number: 95K3 0402 1%; Watt: 63mW; Package: RESC0402X40N; EDM-PN: *; Text2: *; Reutech PN: *; SAAB PN: *; DCE Part No: *
footprint RESC0402X40N (Chip Resistor, 0402, 2-Leads, Body 1.1x0.5mm, IPC Medium Density)
pins: 1, 2

## 95K3_0603
designator R?, comment value 95K3  Tol: 1%  Text1: 0603  (hidden comment: 95K3_R0603_1%)
Resistor Chip SMD; Manufacturer: Various; Part Number: 95K3 0603 1%; Watt: 100mW; Package: RESC0603X60N; EDM-PN: *; Text2: *; Reutech PN: *; SAAB PN: *; DCE Part No: *
footprint RESC0603X60N (Chip Resistor, 0603, 2-Leads, Body 1.6x0.8mm, IPC Medium Density)
pins: 1, 2

## 95K3_0805
designator R?, comment value 95K3  Tol: 1%  Text1: 0805  (hidden comment: 95K3_R0805_1%)
Resistor Chip SMD; Manufacturer: Various; Part Number: 95K3 0805 1%; Watt: 125mW; Package: RESC0805X65N; EDM-PN: *; Text2: *; Reutech PN: *; SAAB PN: *; DCE Part No: *
footprint RESC0805X65N (Chip Resistor, 0805, 2-Leads, Body 2.0x1.3mm, IPC Medium Density)
pins: 1, 2

## 100K-1%-62mW-CAT16-4
designator R?  value 100K  Tol: 1%  (hidden comment: 100K-1%-62mW-CAT16-4)
Resistor Chip Array; Manufacturer: Bourns; Part Number: CAT16-1003F4; Watt: 62mW; Package: CAT16-4; EDM-PN: *; Text2: *; Text1: *; Reutech PN: *; SAAB PN: *; DCE Part No: *
footprint CAT16-4 (Res Network 1.6x3.2mm)
pins: 1, 2, 3, 4, 5, 6, 7, 8

## 100K-1%-62mW-CAY16-4
designator R?  value 100K  Tol: 1%  (hidden comment: 100K-1%-62mW-CAY16-4)
Resistor Chip Array; Manufacturer: Bourns; Part Number: CAY16-1003F4; Watt: 62mW; Package: CAY16-4; EDM-PN: *; Text2: *; Text1: *; Reutech PN: *; SAAB PN: *; DCE Part No: *
footprint CAY16-4 (Res Network 1.6x3.2mm)
pins: 1, 2, 3, 4, 5, 6, 7, 8

## 100K-5%-62mW-742C163
designator R?  value 100K  Tol: 5%  (hidden comment: 100K-5%-62mW-742C163)
Resistor Chip Array; Manufacturer: CTS; Part Number: 742C163104JP; Watt: 62mW; Package: 742C163; EDM-PN: *; Text2: *; Text1: *; Reutech PN: *; SAAB PN: *; DCE Part No: *
footprint 742C163 (Res Array  1.6x6.4mm)
pins: 1, 2, 3, 4, 5, 6, 7, 8, 9, 10, 11, 12, 13, 14, 15, 16

## 100K-5%-62mW-CRA04S-8
designator R?  value 100K  Tol: 5%  (hidden comment: 100K-5%-62mW-CRA04S-8)
Resistor Chip Array; Manufacturer: Vishay; Part Number: CRA04S083100KJTD; Watt: 62mW; Package: CRA04S-8; EDM-PN: *; Text2: *; Text1: *; Reutech PN: *; SAAB PN: *; DCE Part No: *
footprint CRA04S-8 (Res Network 1.0x1.2mm)
pins: 1, 2, 3, 4, 5, 6, 7, 8

## 100K/100K_RM2012A-104/104-PBVW10
designator R?, comment Text2: 100K  (hidden comment: RM2012A-104/104-PBVW10)
Resistor Chip Array 25ppm; Manufacturer: Susumu; Watt: 50mW; Tol: 0.1%; Value: 100K/100K; Part Number: RM2012A-104/104-PBVW10; Package: RESC0201X33N; EDM-PN: *; Reutech PN: *; SAAB PN: *; Text1: 100K; DCE Part No: *
footprint RES-RM2012A (RM2012A 2.0x1.25mm)
pins: 1, 2, 3, 4

## 100K_0201
designator R?, comment value 100K  Tol: 1%  Text1: 0201  (hidden comment: 100K_R0201_1%)
Resistor Chip SMD; Manufacturer: Various; Part Number: 100K 0201 1%; Watt: 31mW; Package: RESC0201X33N; EDM-PN: *; Text2: *; Reutech PN: *; SAAB PN: *; DCE Part No: *
footprint RESC0201X33N (Chip Resistor, 0201, 2-Leads, Body 0.6x0.3mm, IPC Medium Density)
pins: 1, 2

## 100K_0402
designator R?, comment value 100K  Tol: 1%  Text1: 0402  (hidden comment: 100K_R0402_1%)
Resistor Chip SMD; Manufacturer: Various; Part Number: 100K 0402 1%; DCE Part No: 7143; Watt: 63mW; EDM-PN: RES650; SAAB PN: 1ACF01113AEA; Package: RESC0402X40N; Text2: *; Reutech PN: *
footprint RESC0402X40N (Chip Resistor, 0402, 2-Leads, Body 1.1x0.5mm, IPC Medium Density)
pins: 1, 2

## 100K_0402-5%
designator R?, comment value 100K  Tol: 5%  Text1: 0402  (hidden comment: 100K_R0402_5%)
Resistor Chip SMD; Manufacturer: Various; Part Number: 100K 0402 5%; Watt: 63mW; Package: RESC0402X40N; EDM-PN: *; Text2: *; Reutech PN: *; SAAB PN: *; DCE Part No: *
footprint RESC0402X40N (Chip Resistor, 0402, 2-Leads, Body 1.1x0.5mm, IPC Medium Density)
pins: 1, 2

## 100K_0402-5%-DNF
designator R?, comment value (100K)  Tol: 5%  Text1: 0402  (hidden comment: 100K_R0402_5%)
Resistor Chip SMD - Do not Fit; Manufacturer: Various; Part Number: DNF - 100K 0402 5%; Watt: 63mW; Package: RESC0402X40N; EDM-PN: *; Text2: *; Reutech PN: *; SAAB PN: *; DCE Part No: *
footprint RESC0402X40N (Chip Resistor, 0402, 2-Leads, Body 1.1x0.5mm, IPC Medium Density)
pins: 1, 2

## 100K_0402-DNF
designator R?, comment value (100K)  Tol: 1%  Text1: 0402  (hidden comment: 100K_R0402_1%-DNF)
Resistor Chip SMD - Do not Fit; Manufacturer: Various; Part Number: DNF - 100K 0402 1%; Watt: 63mW; Package: RESC0402X40N; EDM-PN: *; Text2: *; Reutech PN: *; SAAB PN: *; DCE Part No: *
footprint RESC0402X40N (Chip Resistor, 0402, 2-Leads, Body 1.1x0.5mm, IPC Medium Density)
pins: 1, 2

## 100K_0402L
designator R?, comment value 100K  Tol: 1%  Text1: 0402  (hidden comment: 100K_R0402_1%)
Resistor Chip SMD; Manufacturer: Various; Part Number: 100K 0402 1%; DCE Part No: 7143; Watt: 63mW; EDM-PN: RES650; SAAB PN: 1ACF01113AEA; Package: RESC0402X40L; Text2: *; Reutech PN: *
footprint RESC0402X40L (Chip Resistor, 0402, 2-Leads, Body 1.1x0.5mm, IPC High Density)
pins: 1, 2

## 100K_0603
designator R?, comment value 100K  Tol: 1%  Text1: 0603  (hidden comment: 100K_R0603_1%)
Resistor Chip SMD; Manufacturer: Various; Part Number: 100K 0603 1%; Watt: 100mW; EDM-PN: RES67; Package: RESC0603X60N; Text2: *; Reutech PN: 5905-93-1003; SAAB PN: *; DCE Part No: *
footprint RESC0603X60N (Chip Resistor, 0603, 2-Leads, Body 1.6x0.8mm, IPC Medium Density)
pins: 1, 2

## 100K_0603-0.1%
designator R?, comment value 100K  Tol: 0.1%  Text1: 0603  (hidden comment: 100K_R0603_0.1%)
Resistor Chip SMD; Manufacturer: Various; Part Number: 100K 0603 0.1%; Watt: 100mW; Package: RESC0603X60N; EDM-PN: *; Text2: *; Reutech PN: *; SAAB PN: *; DCE Part No: *
footprint RESC0603X60N (Chip Resistor, 0603, 2-Leads, Body 1.6x0.8mm, IPC Medium Density)
pins: 1, 2

## 100K_0603-0.1%-TNPW0603100KBEEA
designator R?, comment value 100K  Tol: 0.1%  Text1: 0603  (hidden comment: TNPW0603100KBEEA)
Resistor Chip SMD Automotive AEC-Q200; Manufacturer: Vishay; Watt: 125mW; Reutech PN: 5905-CR-0041; Part Number: TNPW0603100KBEEA; Package: RESC0603X60N; EDM-PN: *; Text2: *; SAAB PN: *; DCE Part No: *
footprint RESC0603X60N (Chip Resistor, 0603, 2-Leads, Body 1.6x0.8mm, IPC Medium Density)
pins: 1, 2

## 100K_0603-DNF
designator R?, comment value (100K)  Tol: 1%  Text1: 0603  (hidden comment: 100K_R0603_1%-DNF)
Resistor Chip SMD - Do not Fit; Manufacturer: Various; Part Number: DNF - 100K 0603 1%; Watt: 100mW; Package: RESC0603X60N; EDM-PN: *; Text2: *; Reutech PN: *; SAAB PN: *; DCE Part No: *
footprint RESC0603X60N (Chip Resistor, 0603, 2-Leads, Body 1.6x0.8mm, IPC Medium Density)
pins: 1, 2

## 100K_0805
designator R?, comment value 100K  Tol: 1%  Text1: 0805  (hidden comment: 100K_R0805_1%)
Resistor Chip SMD; Manufacturer: Various; Part Number: 100K 0805 1%; Watt: 125mW; EDM-PN: RES88; Package: RESC0805X65N; Text2: *; Reutech PN: *; SAAB PN: *; DCE Part No: *
footprint RESC0805X65N (Chip Resistor, 0805, 2-Leads, Body 2.0x1.3mm, IPC Medium Density)
pins: 1, 2

## 100K_0805-DNF
designator R?, comment value (100K)  Tol: 1%  Text1: 0805  (hidden comment: 100K_R0805_1%-DNF)
Resistor Chip SMD - Do not Fit; Manufacturer: Various; Part Number: DNF - 100K 0805 1%; Watt: 125mW; EDM-PN: RES88; Package: RESC0805X65N; Text2: *; Reutech PN: *; SAAB PN: *; DCE Part No: *
footprint RESC0805X65N (Chip Resistor, 0805, 2-Leads, Body 2.0x1.3mm, IPC Medium Density)
pins: 1, 2

## 100K_1206
designator R?, comment value 100K  Tol: 1%  Text1: 1206  (hidden comment: 100K_R1206_1%)
Resistor Chip SMD; Manufacturer: Various; Part Number: 100K 1206 1%; Watt: 250mW; EDM-PN: RES7; Package: RESC1206X71N; Text2: *; Reutech PN: *; SAAB PN: *; DCE Part No: *
footprint RESC1206X71N (Chip Resistor, 1206, 2-Leads, Body 3.2x1.6mm, IPC Medium Density)
pins: 1, 2

## 100K_2512-1W
designator R?, comment value 100K  Watt: 1W  Text1: 2512  (hidden comment: 100K_R2512-1W)
Resistor Thick Film; Manufacturer: Various; Part Number: 100K 2512 1% 1W; Tol: 1%; Package: RESC2512X71N; EDM-PN: *; Text2: *; Reutech PN: *; SAAB PN: *; DCE Part No: *
footprint RESC2512X71N (Chip Resistor, 2512, 2-Leads, Body 6.3x3.2mm, IPC Medium Density)
pins: 1, 2

## 100K_2512-2W
designator R?, comment value 100K  Watt: 2W  Text1: 2512  (hidden comment: 100K_R2512-2W)
Resistor Thick Film; Manufacturer: Various; Part Number: 100K 2512 1% 2W; Tol: 1%; Package: RESC2512X71N; EDM-PN: *; Text2: *; Reutech PN: *; SAAB PN: *; DCE Part No: *
footprint RESC2512X71N (Chip Resistor, 2512, 2-Leads, Body 6.3x3.2mm, IPC Medium Density)
pins: 1, 2

## 100K_2512-3W
designator R?, comment value 100K  Watt: 3W  Text1: 2512  (hidden comment: 100K_R2512-3W)
Resistor Thick Film; Manufacturer: Various; Part Number: 100K 2512 1% 3W; Tol: 1%; Package: RESC2512X71N; EDM-PN: *; Text2: *; Reutech PN: *; SAAB PN: *; DCE Part No: *
footprint RESC2512X71N (Chip Resistor, 2512, 2-Leads, Body 6.3x3.2mm, IPC Medium Density)
pins: 1, 2

## 100R-1%-62mW-CAT16-4
designator R?  value 100R  Tol: 1%  (hidden comment: 100R-1%-62mW-CAT16-4)
Resistor Chip Array; Manufacturer: Bourns; Part Number: CAT16-100R0F4; Watt: 62mW; Package: CAT16-4; EDM-PN: *; Text2: *; Text1: *; Reutech PN: *; SAAB PN: *; DCE Part No: *
footprint CAT16-4 (Res Network 1.6x3.2mm)
pins: 1, 2, 3, 4, 5, 6, 7, 8

## 100R-1%-62mW-CAY16-4
designator R?  value 100R  Tol: 1%  (hidden comment: 100R-1%-62mW-CAY16-4)
Resistor Chip Array; Manufacturer: Bourns; Part Number: CAY16-100R0F4; Watt: 62mW; Package: CAY16-4; EDM-PN: *; Text2: *; Text1: *; Reutech PN: *; SAAB PN: *; DCE Part No: *
footprint CAY16-4 (Res Network 1.6x3.2mm)
pins: 1, 2, 3, 4, 5, 6, 7, 8

## 100R-5%-62mW-EXBN8V101JX
designator R?, comment value 100R  Tol: 5%  (hidden comment: 100R-5%-62mW-EXBN8V101JX-H)
Resistor Chip Array; Manufacturer: Panasonic; Watt: 62mW; Part Number: EXBN8V101JX; Package: EXBN8V; EDM-PN: *; Text2: *; Text1: *; Reutech PN: *; SAAB PN: *; DCE Part No: *
footprint EXBN8V (EXBN8V 0402x4 1.0x2.0mm)
pins: 1, 2, 3, 4, 5, 6, 7, 8

## 100R-5%-EXB-2HV
designator R?  value 100R  Tol: 5%  (hidden comment: 100R-5%-EXB-2HV)
Resistor Chip Array; Manufacturer: Panasonic; Part Number: EXB-2HV101JV; Watt: 62mW; Package: EXB2HV; EDM-PN: *; Text2: *; Text1: *; Reutech PN: *; SAAB PN: *; DCE Part No: *
footprint EXB2HV (Res Array  1.6x3.8mm)
pins: 1, 2, 3, 4, 5, 6, 7, 8, 9, 10, 11, 12, 13, 14, 15, 16

## 100R_0201
designator R?, comment value 100R  Tol: 1%  Text1: 0201  (hidden comment: 100R_R0201_1%)
Resistor Chip SMD; Manufacturer: Various; Part Number: 100R 0201 1%; Watt: 31mW; Package: RESC0201X33N; EDM-PN: *; Text2: *; Reutech PN: *; SAAB PN: *; DCE Part No: *
footprint RESC0201X33N (Chip Resistor, 0201, 2-Leads, Body 0.6x0.3mm, IPC Medium Density)
pins: 1, 2

## 100R_0201-SMALL
designator R?, comment value 100R  Text1: 0201  (hidden comment: 100R_R0201_1%)
Resistor Chip SMD; Manufacturer: Various; Part Number: 100R 0201 1%; Watt: 31mW; Tol: 1%; Package: RESC0201X33N; EDM-PN: *; Text2: *; Reutech PN: *; SAAB PN: *; DCE Part No: *
footprint RESC0201X33N (Chip Resistor, 0201, 2-Leads, Body 0.6x0.3mm, IPC Medium Density)
pins: 1, 2

## 100R_0201L
designator R?, comment value 100R  Tol: 1%  Text1: 0201  (hidden comment: 100R_R0201_1%)
Resistor Chip SMD; Manufacturer: Various; Part Number: 100R 0201 1%; Watt: 31mW; Package: RESC0201X33L; EDM-PN: *; Text2: *; Reutech PN: *; SAAB PN: *; DCE Part No: *
footprint RESC0201X33L (Chip Resistor, 0201, 2-Leads, Body 0.6x0.3mm, IPC Least Density)
pins: 1, 2

## 100R_0201L-SMALL
designator R?, comment value 100R  Text1: 0201  (hidden comment: 100R_R0201_1%)
Resistor Chip SMD; Manufacturer: Various; Part Number: 100R 0201 1%; Watt: 31mW; Tol: 1%; Package: RESC0201X33L; EDM-PN: *; Text2: *; Reutech PN: *; SAAB PN: *; DCE Part No: *
footprint RESC0201X33L (Chip Resistor, 0201, 2-Leads, Body 0.6x0.3mm, IPC Least Density)
pins: 1, 2

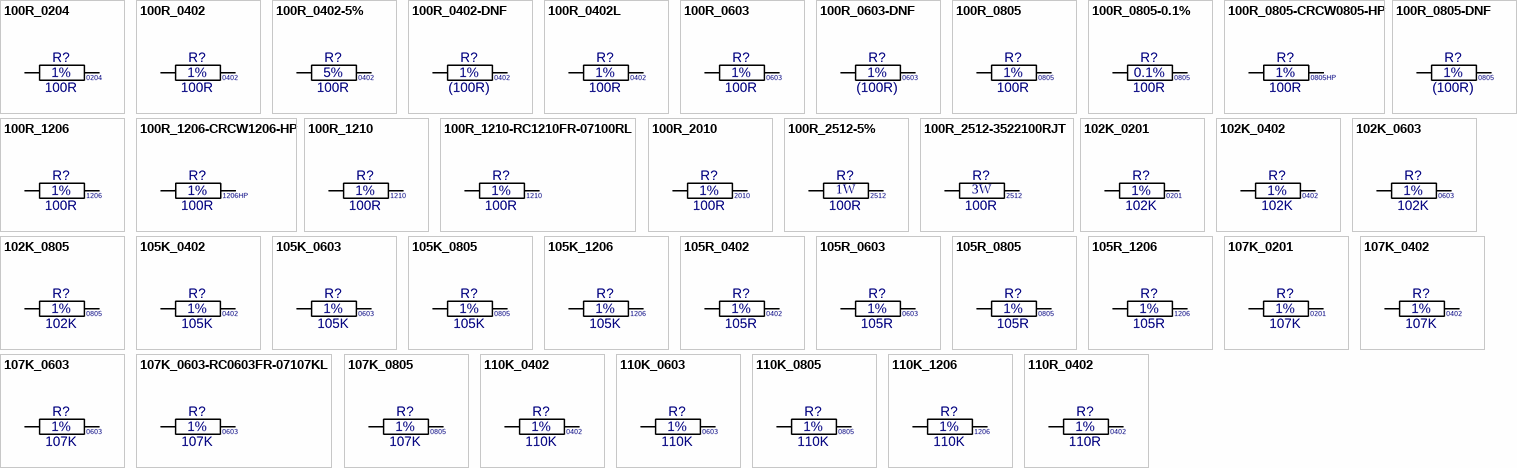
[diagram p40: symbols 100R_0204 to 110R_0402]

## 100R_0204
designator R?, comment value 100R  Tol: 1%  Text1: 0204  (hidden comment: SMM02040C1000FB000)
Resistor Melf SMD; Manufacturer: Vishay; DCE Part No: 7523; Watt: 250mW; EDM-PN: RES651; Part Number: SMM02040C1000FB000; Package: RES-SMM0204; Text2: *; Reutech PN: *; SAAB PN: *
footprint RES-SMM0204 (Resistor SMM0204 3.6x1.4mm)
pins: 1, 2

## 100R_0402
designator R?, comment value 100R  Tol: 1%  Text1: 0402  (hidden comment: 100R_R0402_1%)
Resistor Chip SMD; Manufacturer: Various; Part Number: 100R 0402 1%; DCE Part No: 7523; Watt: 63mW; EDM-PN: RES651; Package: RESC0402X40N; Text2: *; Reutech PN: 5905-92-1000; SAAB PN: *
footprint RESC0402X40N (Chip Resistor, 0402, 2-Leads, Body 1.1x0.5mm, IPC Medium Density)
pins: 1, 2

## 100R_0402-5%
designator R?, comment value 100R  Tol: 5%  Text1: 0402  (hidden comment: 100R_R0402_5%)
Resistor Chip SMD; Manufacturer: Various; Part Number: 100R 0402 5%; Watt: 63mW; Package: RESC0402X40N; EDM-PN: *; Text2: *; Reutech PN: *; SAAB PN: *; DCE Part No: *
footprint RESC0402X40N (Chip Resistor, 0402, 2-Leads, Body 1.1x0.5mm, IPC Medium Density)
pins: 1, 2

## 100R_0402-DNF
designator R?, comment value (100R)  Tol: 1%  Text1: 0402  (hidden comment: 100R_R0402_1%)
Resistor Chip SMD - Do not Fit; Manufacturer: Various; Part Number: DNF - 100R 0402 1%; Watt: 63mW; Package: RESC0402X40N; EDM-PN: *; Text2: *; Reutech PN: 5905-92-1000; SAAB PN: *; DCE Part No: *
footprint RESC0402X40N (Chip Resistor, 0402, 2-Leads, Body 1.1x0.5mm, IPC Medium Density)
pins: 1, 2

## 100R_0402L
designator R?, comment value 100R  Tol: 1%  Text1: 0402  (hidden comment: 100R_R0402_1%)
Resistor Chip SMD; Manufacturer: Various; Part Number: 100R 0402 1%; DCE Part No: 7523; Watt: 63mW; EDM-PN: RES651; Package: RESC0402X40L; Text2: *; Reutech PN: 5905-92-1000; SAAB PN: *
footprint RESC0402X40L (Chip Resistor, 0402, 2-Leads, Body 1.1x0.5mm, IPC High Density)
pins: 1, 2

## 100R_0603
designator R?, comment value 100R  Tol: 1%  Text1: 0603  (hidden comment: 100R_R0603_1%)
Resistor Chip SMD; Manufacturer: Various; Part Number: 100R 0603 1%; Watt: 100mW; EDM-PN: RES223; Package: RESC0603X60N; Text2: *; Reutech PN: 5905-93-1000; SAAB PN: *; DCE Part No: *
footprint RESC0603X60N (Chip Resistor, 0603, 2-Leads, Body 1.6x0.8mm, IPC Medium Density)
pins: 1, 2

## 100R_0603-DNF
designator R?, comment value (100R)  Tol: 1%  Text1: 0603  (hidden comment: 100R_R0603_1%-DNF)
Resistor Chip SMD - Do not Fit; Manufacturer: Various; Part Number: DNF - 100R 0603 1%; Watt: 100mW; Package: RESC0603X60N; EDM-PN: *; Text2: *; Reutech PN: 5905-93-1000; SAAB PN: *; DCE Part No: *
footprint RESC0603X60N (Chip Resistor, 0603, 2-Leads, Body 1.6x0.8mm, IPC Medium Density)
pins: 1, 2

## 100R_0805
designator R?, comment value 100R  Tol: 1%  Text1: 0805  (hidden comment: 100R_R0805_1%)
Resistor Chip SMD; Manufacturer: Various; Part Number: 100R 0805 1%; Watt: 125mW; EDM-PN: RES10; SAAB PN: 1ACF00177AEA; Package: RESC0805X65N; Text2: *; Reutech PN: *; DCE Part No: *
footprint RESC0805X65N (Chip Resistor, 0805, 2-Leads, Body 2.0x1.3mm, IPC Medium Density)
pins: 1, 2

## 100R_0805-0.1%
designator R?, comment value 100R  Tol: 0.1%  Text1: 0805  (hidden comment: 100R_R0805_0.1%)
Resistor Chip SMD; Manufacturer: Various; Part Number: 100R 0805 0.1%; Watt: 125mW; Package: RESC0805X65N; EDM-PN: *; Text2: *; Reutech PN: *; SAAB PN: *; DCE Part No: *
footprint RESC0805X65N (Chip Resistor, 0805, 2-Leads, Body 2.0x1.3mm, IPC Medium Density)
pins: 1, 2